# Altium footprint library FlatPack-14.PcbLib: 1 footprints
Each footprint in its own frame and in the unit in brackets; x right, y up, seen from the top. Pads: shape width x height; smd on the part's side, far side on the other; paste and mask are expansions set on the pad; w line width, h text height; cw(c..) or ccw(c..) is an arc to the next point about the centre after c.
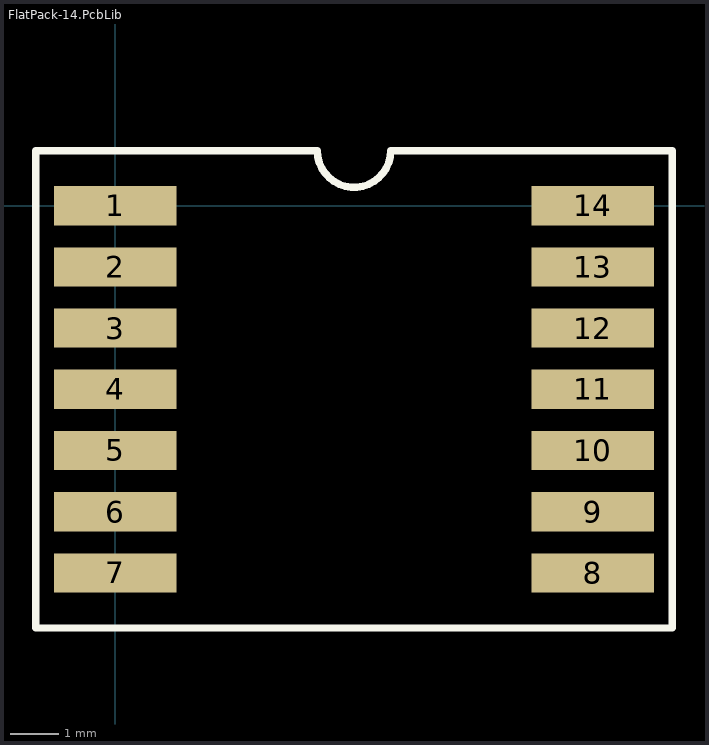
[diagram p0: the footprint, top view; thin cyan lines are the x and y axes]

## FlatPack-14.PcbLib [mil]
pads (14):
  rect 100x32 smd: 1(0,0) 2(0,-50) 3(0,-100) 4(0,-150) 5(0,-200) 6(0,-250) 7(0,-300) 8(390,-300) 9(390,-250) 10(390,-200) 11(390,-150) 12(390,-100) 13(390,-50) 14(390,0)
Top Overlay:
  lines w6: -65,-345 455,-345 455,45 225,45 cw(c195,45) 165,45 -65,45 -65,-345
Mechanical 15:
  text "'.Designator'" at -27.56,-111.56 h78.74